# Altium schematic symbol library Connectors.SchLib: 32 symbols
Pins are listed as number, name and electrical type; pins without a type are passive.

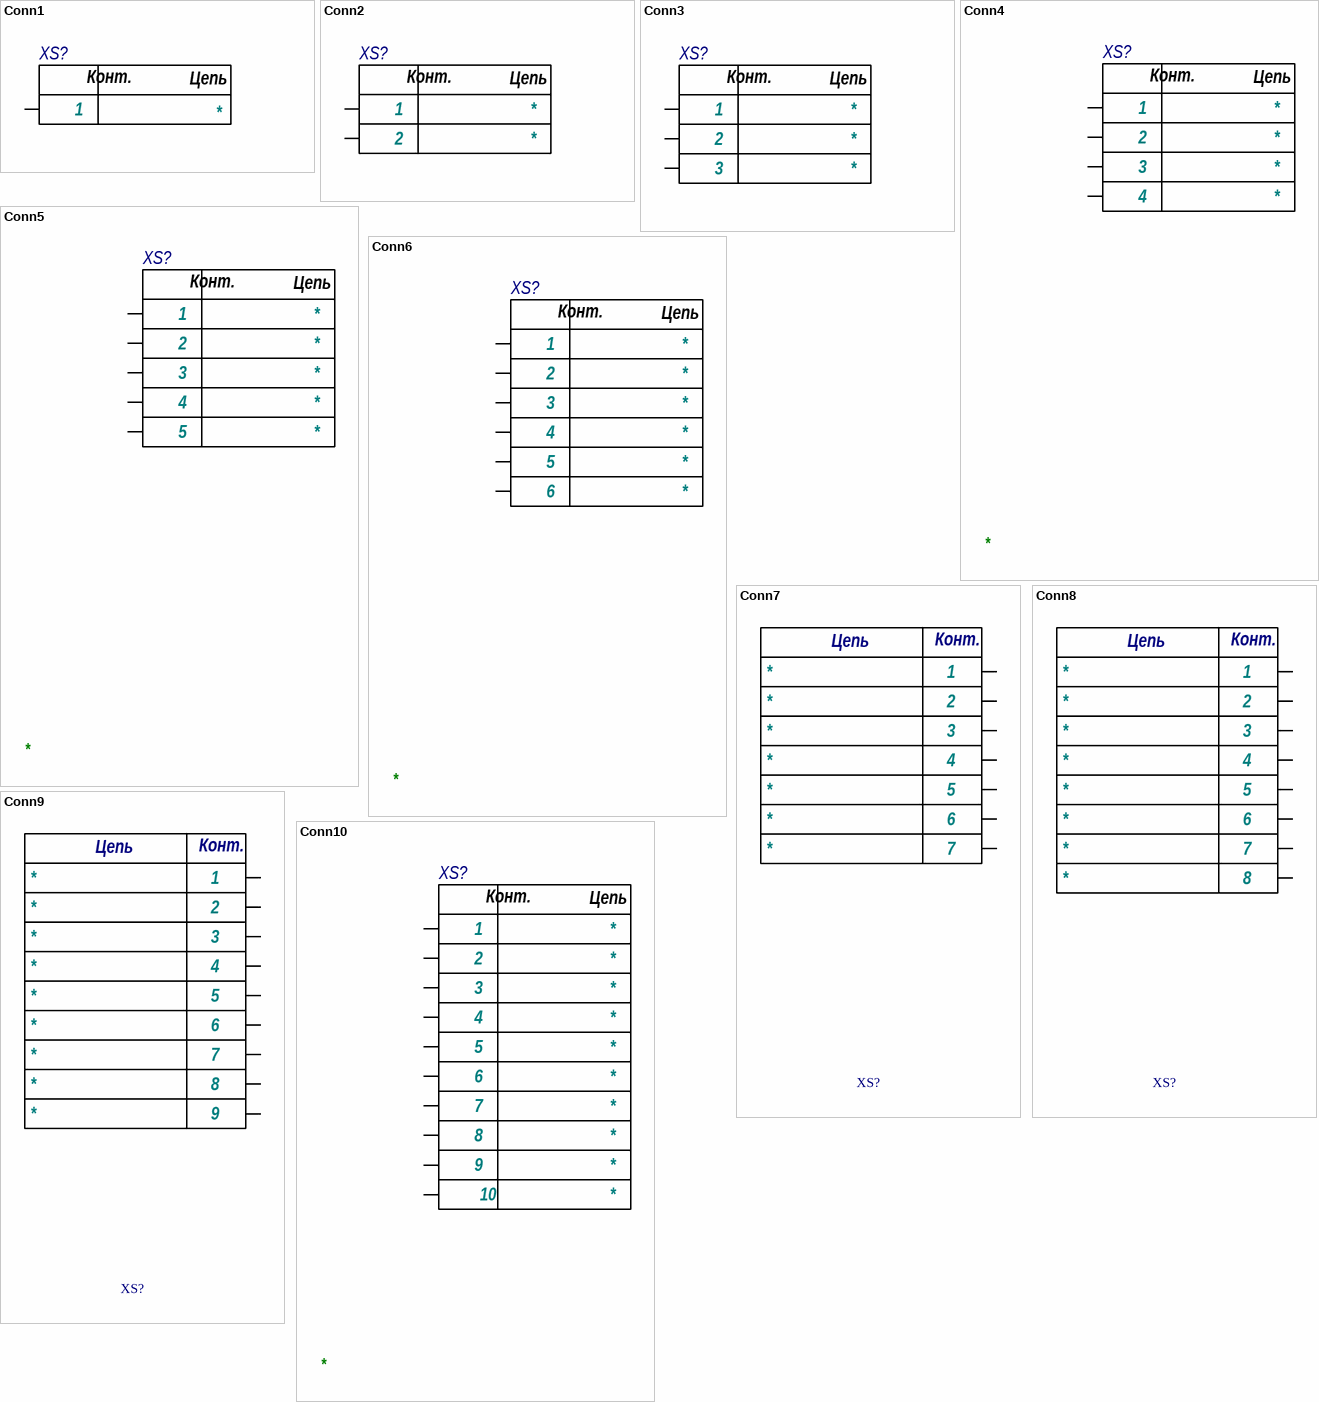
[diagram p0: symbols Conn1 to Conn10]

## Conn1
designator XS?
Разъемный; ValueManufacturer: *; STR1: *; ValueType: *; ValueManufacturerPartNumber: *
pins: 1
1 alternate drawing of the same symbol
text: Конт.; Цепь

## Conn2
designator XS?
Разъемный; ValueManufacturer: *; ValueType: *; STR1: *; STR2: *; ValueManufacturerPartNumber: *
pins: 1, 2
text: Конт.; Цепь

## Conn3
designator XS?
Разъемный; ValueManufacturer: *; ValueType: *; STR1: *; STR2: *; STR3: *; ValueManufacturerPartNumber: *
pins: 1, 2, 3
text: Конт.; Цепь

## Conn4
designator XS?
Разъемный; ValueManufacturer: *; ValueType: *; STR1: *; STR2: *; STR3: *; STR4: *; ValueManufacturerPartNumber: *
pins: 1, 2, 3, 4
text: Конт.; Цепь

## Conn5
designator XS?
Разъемный; ValueManufacturer: *; ValueType: *; STR1: *; STR2: *; STR3: *; STR4: *; STR5: *; ValueManufacturerPartNumber: *
pins: 1, 2, 3, 4, 5
text: Конт.; Цепь

## Conn6
designator XS?
Разъемный; ValueManufacturer: *; ValueType: *; STR1: *; STR2: *; STR3: *; STR4: *; STR5: *; STR6: *; ValueManufacturerPartNumber: *
pins: 1, 2, 3, 4, 5, 6
text: Конт.; Цепь

## Conn7
designator XS?
Разъемный; ValueManufacturer: *; ValueManufacturerPartNumber: *; ValueType: *; STR1: *; STR2: *; STR3: *; STR4: *; STR5: *; STR6: *; STR7: *
pins: 1, 2, 3, 4, 5, 6, 7
text: Цепь; Конт.

## Conn8
designator XS?
Разъемный; ValueManufacturer: *; ValueManufacturerPartNumber: *; ValueType: *; STR1: *; STR2: *; STR3: *; STR4: *; STR5: *; STR6: *; STR7: *; STR8: *
pins: 1, 2, 3, 4, 5, 6, 7, 8
text: Цепь; Конт.

## Conn9
designator XS?
Разъемный; ValueManufacturer: *; ValueManufacturerPartNumber: *; ValueType: *; STR1: *; STR2: *; STR3: *; STR4: *; STR5: *; STR6: *; STR7: *; STR8: *; STR9: *
pins: 1, 2, 3, 4, 5, 6, 7, 8, 9
text: Цепь; Конт.

## Conn10
designator XS?
Разъемный; ValueManufacturer: *; ValueType: *; STR1: *; STR2: *; STR3: *; STR4: *; STR5: *; STR6: *; STR7: *; STR8: *; STR9: *; STR10: *; ValueManufacturerPartNumber: *
pins: 1, 2, 3, 4, 5, 6, 7, 8, 9, 10
text: Конт.; Цепь

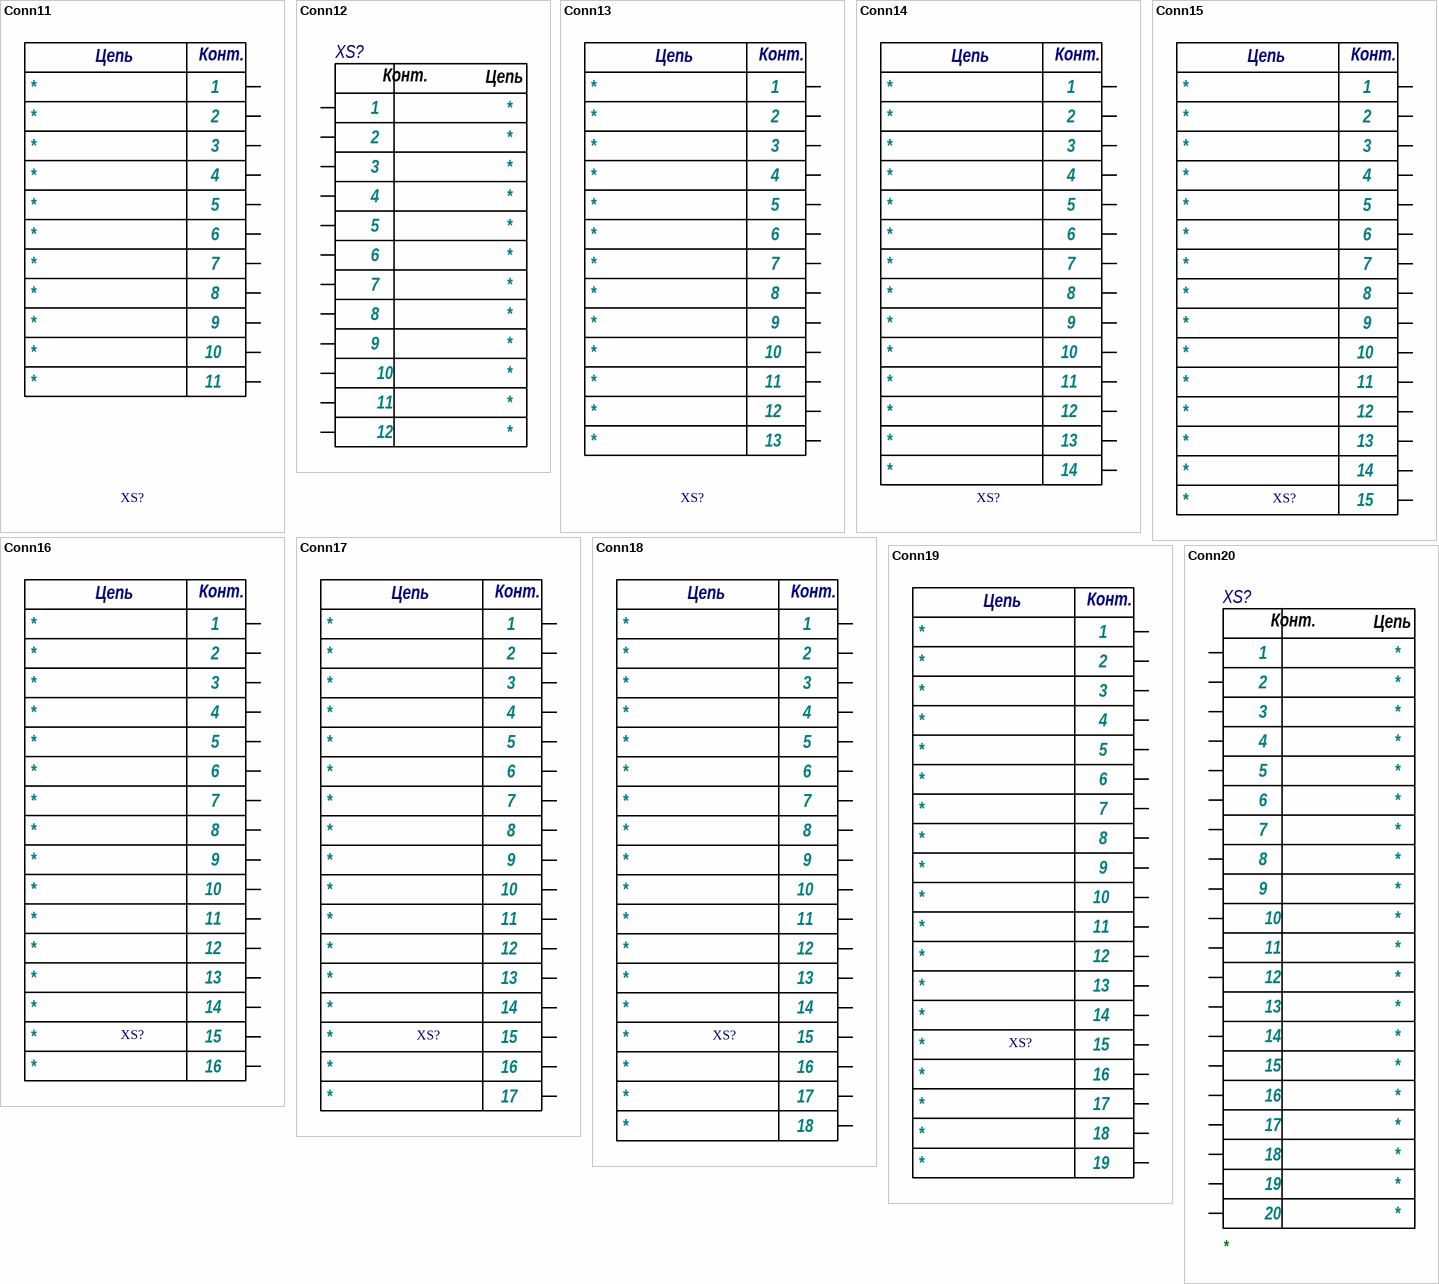
[diagram p1: symbols Conn11 to Conn20]

## Conn11
designator XS?
Разъемный; ValueManufacturer: *; ValueManufacturerPartNumber: *; ValueType: *; STR1: *; STR2: *; STR3: *; STR4: *; STR5: *; STR6: *; STR7: *; STR8: *; STR9: *; STR10: *; STR11: *
pins: 1, 2, 3, 4, 5, 6, 7, 8, 9, 10, 11
text: Цепь; Конт.

## Conn12
designator XS?
Разъемный; ValueManufacturer: *; ValueManufacturerPartNumber: *; ValueType: *; STR1: *; STR2: *; STR3: *; STR4: *; STR5: *; STR6: *; STR7: *; STR8: *; STR9: *; STR10: *; STR11: *; STR12: *
pins: 1, 2, 3, 4, 5, 6, 7, 8, 9, 10, 11, 12
text: Конт.; Цепь

## Conn13
designator XS?
Разъемный; ValueManufacturer: *; ValueManufacturerPartNumber: *; ValueType: *; STR1: *; STR2: *; STR3: *; STR4: *; STR5: *; STR6: *; STR7: *; STR8: *; STR9: *; STR10: *; STR11: *; STR12: *; STR13: *
pins: 1, 2, 3, 4, 5, 6, 7, 8, 9, 10, 11, 12, 13
text: Цепь; Конт.

## Conn14
designator XS?
Разъемный; ValueManufacturer: *; ValueManufacturerPartNumber: *; ValueType: *; STR1: *; STR2: *; STR3: *; STR4: *; STR5: *; STR6: *; STR7: *; STR8: *; STR9: *; STR10: *; STR11: *; STR12: *; STR13: *; STR14: *
pins: 1, 2, 3, 4, 5, 6, 7, 8, 9, 10, 11, 12, 13, 14
text: Цепь; Конт.

## Conn15
designator XS?
Разъемный; ValueManufacturer: *; ValueManufacturerPartNumber: *; ValueType: *; STR1: *; STR2: *; STR3: *; STR4: *; STR5: *; STR6: *; STR7: *; STR8: *; STR9: *; STR10: *; STR11: *; STR12: *; STR13: *; STR14: *; STR15: *
pins: 1, 2, 3, 4, 5, 6, 7, 8, 9, 10, 11, 12, 13, 14, 15
text: Цепь; Конт.

## Conn16
designator XS?
Разъемный; ValueManufacturer: *; ValueManufacturerPartNumber: *; ValueType: *; STR1: *; STR2: *; STR3: *; STR4: *; STR5: *; STR6: *; STR7: *; STR8: *; STR9: *; STR10: *; STR11: *; STR12: *; STR13: *; STR14: *; STR15: *; STR16: *
pins: 1, 2, 3, 4, 5, 6, 7, 8, 9, 10, 11, 12, 13, 14, 15, 16
text: Цепь; Конт.

## Conn17
designator XS?
Разъемный; ValueManufacturer: *; ValueManufacturerPartNumber: *; ValueType: *; STR1: *; STR2: *; STR3: *; STR4: *; STR5: *; STR6: *; STR7: *; STR8: *; STR9: *; STR10: *; STR11: *; STR12: *; STR13: *; STR14: *; STR15: *; STR16: *; STR17: *
pins: 1, 2, 3, 4, 5, 6, 7, 8, 9, 10, 11, 12, 13, 14, 15, 16, 17
text: Цепь; Конт.

## Conn18
designator XS?
Разъемный; ValueManufacturer: *; ValueManufacturerPartNumber: *; ValueType: *; STR1: *; STR2: *; STR3: *; STR4: *; STR5: *; STR6: *; STR7: *; STR8: *; STR9: *; STR10: *; STR11: *; STR12: *; STR13: *; STR14: *; STR15: *; STR16: *; STR17: *; STR18: *
pins: 1, 2, 3, 4, 5, 6, 7, 8, 9, 10, 11, 12, 13, 14, 15, 16, 17, 18
text: Цепь; Конт.

## Conn19
designator XS?
Разъемный; ValueManufacturer: *; ValueManufacturerPartNumber: *; ValueType: *; STR1: *; STR2: *; STR3: *; STR4: *; STR5: *; STR6: *; STR7: *; STR8: *; STR9: *; STR10: *; STR11: *; STR12: *; STR13: *; STR14: *; STR15: *; STR16: *; STR17: *; STR18: *; STR19: *
pins: 1, 2, 3, 4, 5, 6, 7, 8, 9, 10, 11, 12, 13, 14, 15, 16, 17, 18, 19
text: Цепь; Конт.

## Conn20
designator XS?
Разъемный; ValueManufacturer: *; ValueType: *; STR1: *; STR2: *; STR3: *; STR4: *; STR5: *; STR6: *; STR7: *; STR8: *; STR9: *; STR10: *; STR11: *; STR12: *; STR13: *; STR14: *; STR15: *; STR16: *; STR17: *; STR18: *; STR19: *; STR20: *; ValueManufacturerPartNumber: *
pins: 1, 2, 3, 4, 5, 6, 7, 8, 9, 10, 11, 12, 13, 14, 15, 16, 17, 18, 19, 20
text: Конт.; Цепь

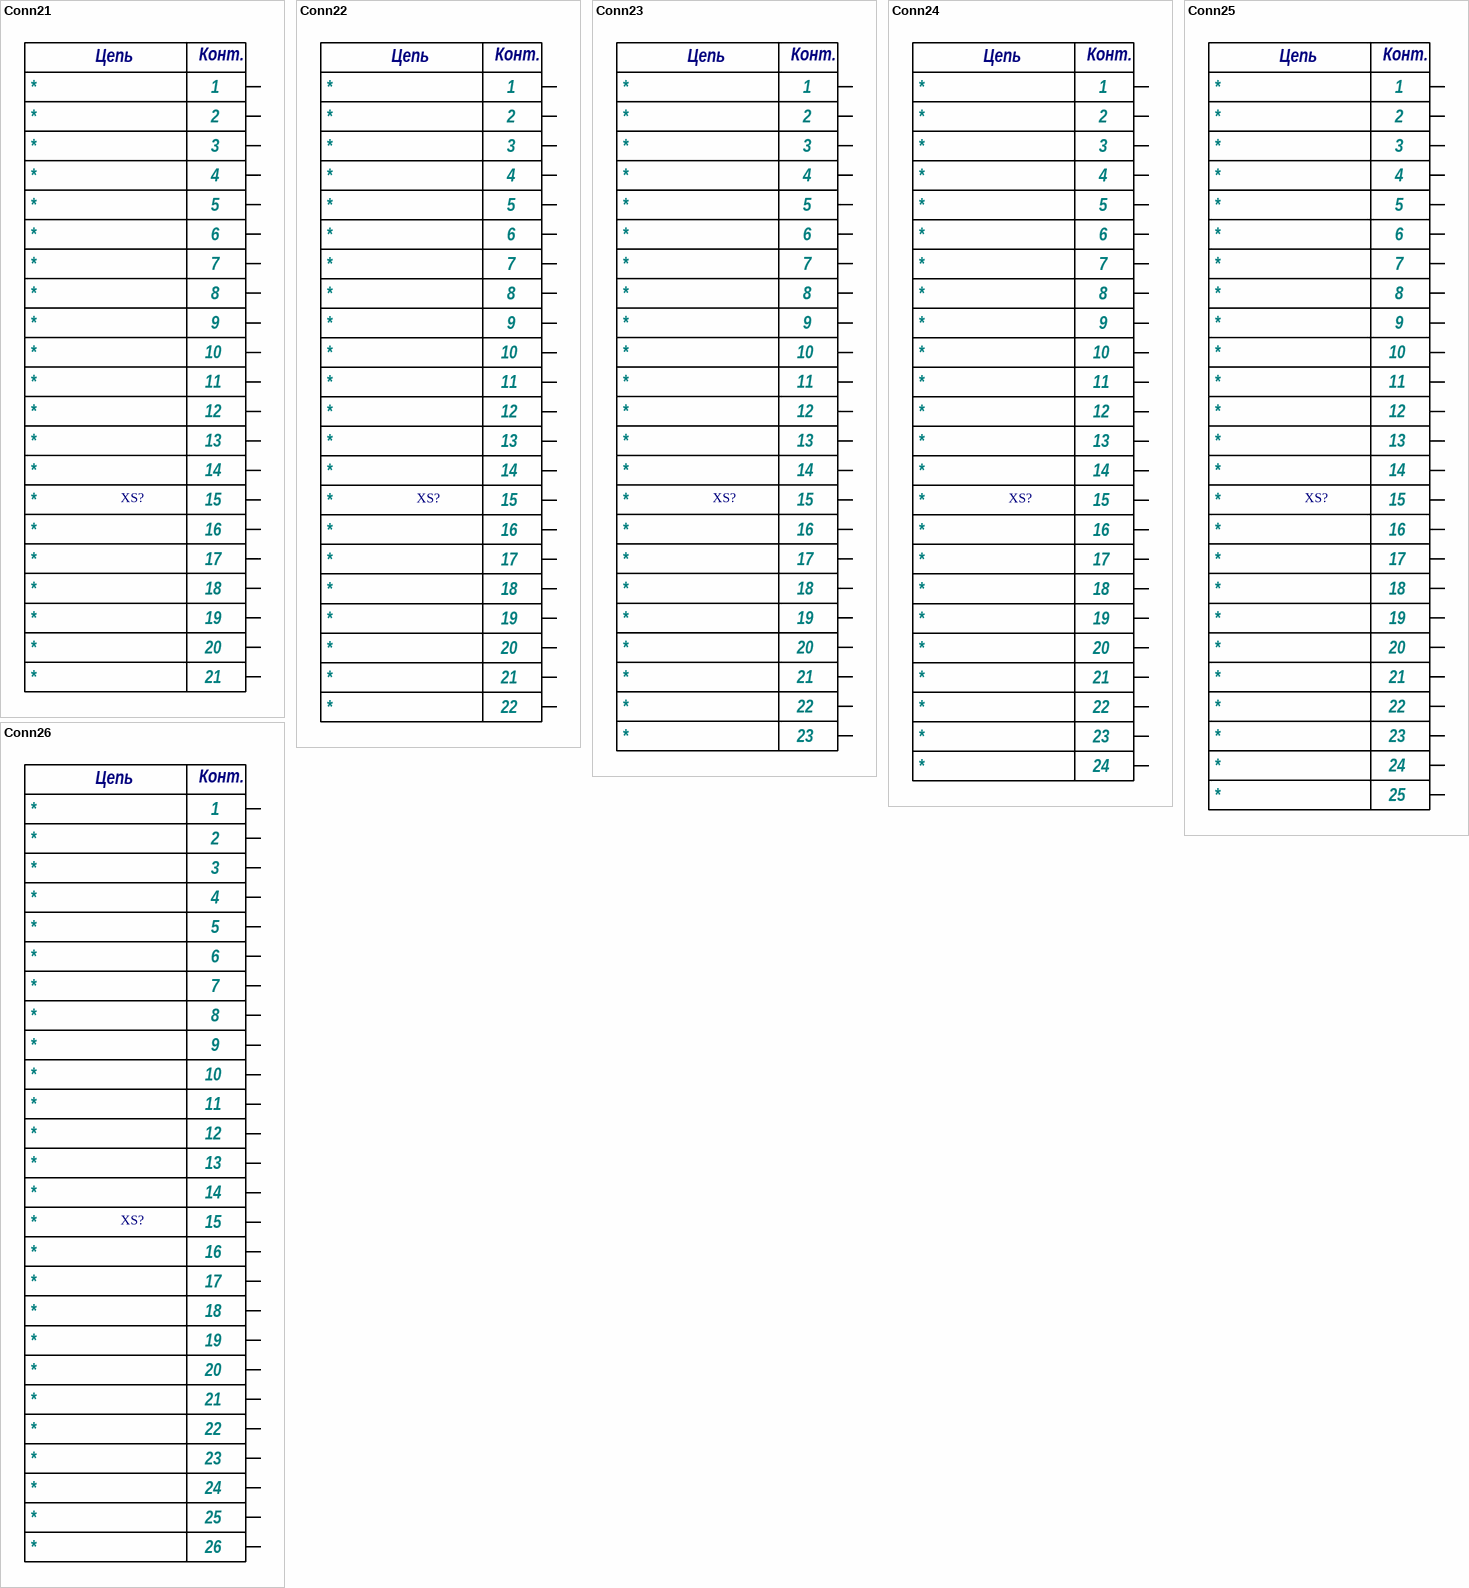
[diagram p2: symbols Conn21 to Conn26]

## Conn21
designator XS?
Разъемный; ValueManufacturer: *; ValueManufacturerPartNumber: *; ValueType: *; STR1: *; STR2: *; STR3: *; STR4: *; STR5: *; STR6: *; STR7: *; STR8: *; STR9: *; STR10: *; STR11: *; STR12: *; STR13: *; STR14: *; STR15: *; STR16: *; STR17: *; STR18: *; STR19: *; STR20: *; STR21: *
pins: 1, 2, 3, 4, 5, 6, 7, 8, 9, 10, 11, 12, 13, 14, 15, 16, 17, 18, 19, 20, 21
text: Цепь; Конт.

## Conn22
designator XS?
Разъемный; ValueManufacturer: *; ValueManufacturerPartNumber: *; ValueType: *; STR1: *; STR2: *; STR3: *; STR4: *; STR5: *; STR6: *; STR7: *; STR8: *; STR9: *; STR10: *; STR11: *; STR12: *; STR13: *; STR14: *; STR15: *; STR16: *; STR17: *; STR18: *; STR19: *; STR20: *; STR21: *; STR22: *
pins: 1, 2, 3, 4, 5, 6, 7, 8, 9, 10, 11, 12, 13, 14, 15, 16, 17, 18, 19, 20, 21, 22
text: Цепь; Конт.

## Conn23
designator XS?
Разъемный; ValueManufacturer: *; ValueManufacturerPartNumber: *; ValueType: *; STR1: *; STR2: *; STR3: *; STR4: *; STR5: *; STR6: *; STR7: *; STR8: *; STR9: *; STR10: *; STR11: *; STR12: *; STR13: *; STR14: *; STR15: *; STR16: *; STR17: *; STR18: *; STR19: *; STR20: *; STR21: *; STR22: *; STR23: *
pins: 1, 2, 3, 4, 5, 6, 7, 8, 9, 10, 11, 12, 13, 14, 15, 16, 17, 18, 19, 20, 21, 22, 23
text: Цепь; Конт.

## Conn24
designator XS?
Разъемный; ValueManufacturer: *; ValueManufacturerPartNumber: *; ValueType: *; STR1: *; STR2: *; STR3: *; STR4: *; STR5: *; STR6: *; STR7: *; STR8: *; STR9: *; STR10: *; STR11: *; STR12: *; STR13: *; STR14: *; STR15: *; STR16: *; STR17: *; STR18: *; STR19: *; STR20: *; STR21: *; STR22: *; STR23: *; STR24: *
pins: 1, 2, 3, 4, 5, 6, 7, 8, 9, 10, 11, 12, 13, 14, 15, 16, 17, 18, 19, 20, 21, 22, 23, 24
text: Цепь; Конт.

## Conn25
designator XS?
Разъемный; ValueManufacturer: *; ValueManufacturerPartNumber: *; ValueType: *; STR1: *; STR2: *; STR3: *; STR4: *; STR5: *; STR6: *; STR7: *; STR8: *; STR9: *; STR10: *; STR11: *; STR12: *; STR13: *; STR14: *; STR15: *; STR16: *; STR17: *; STR18: *; STR19: *; STR20: *; STR21: *; STR22: *; STR23: *; STR24: *; STR25: *
pins: 1, 2, 3, 4, 5, 6, 7, 8, 9, 10, 11, 12, 13, 14, 15, 16, 17, 18, 19, 20, 21, 22, 23, 24, 25
text: Цепь; Конт.

## Conn26
designator XS?
Разъемный; ValueManufacturer: *; ValueManufacturerPartNumber: *; ValueType: *; STR1: *; STR2: *; STR3: *; STR4: *; STR5: *; STR6: *; STR7: *; STR8: *; STR9: *; STR10: *; STR11: *; STR12: *; STR13: *; STR14: *; STR15: *; STR16: *; STR17: *; STR18: *; STR19: *; STR20: *; STR21: *; STR22: *; STR23: *; STR24: *; STR25: *; STR26: *
pins: 1, 2, 3, 4, 5, 6, 7, 8, 9, 10, 11, 12, 13, 14, 15, 16, 17, 18, 19, 20, 21, 22, 23, 24, 25, 26
text: Цепь; Конт.

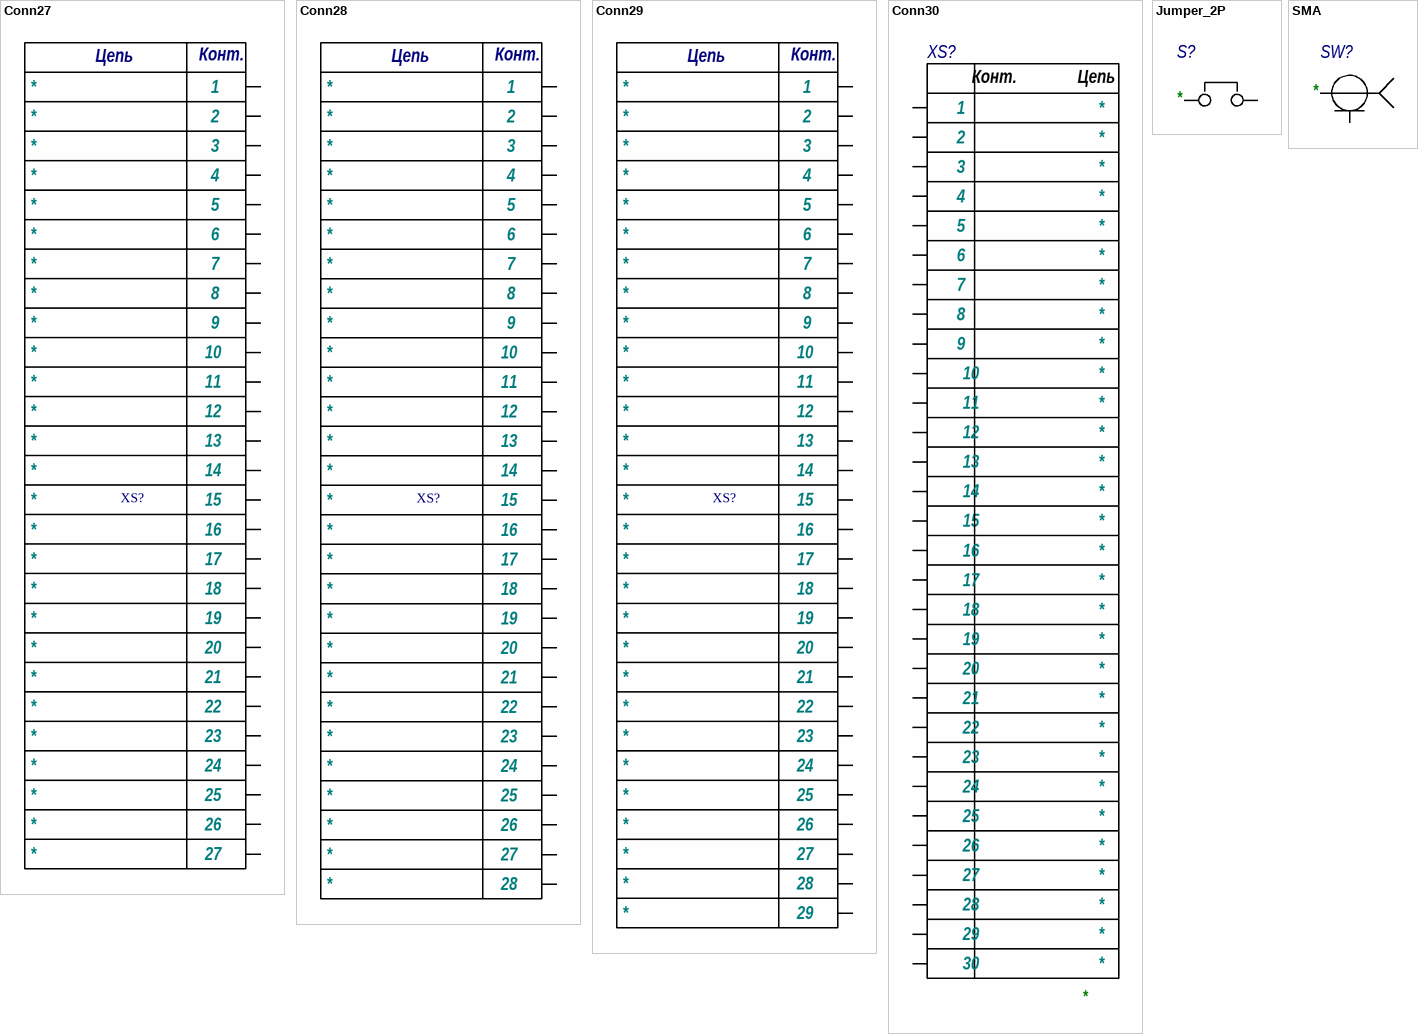
[diagram p3: symbols Conn27 to SMA]

## Conn27
designator XS?
Разъемный; ValueManufacturer: *; ValueManufacturerPartNumber: *; ValueType: *; STR1: *; STR2: *; STR3: *; STR4: *; STR5: *; STR6: *; STR7: *; STR8: *; STR9: *; STR10: *; STR11: *; STR12: *; STR13: *; STR14: *; STR15: *; STR16: *; STR17: *; STR18: *; STR19: *; STR20: *; STR21: *; STR22: *; STR23: *; STR24: *; STR25: *; STR26: *; STR27: *
pins: 1, 2, 3, 4, 5, 6, 7, 8, 9, 10, 11, 12, 13, 14, 15, 16, 17, 18, 19, 20, 21, 22, 23, 24, 25, 26, 27
text: Цепь; Конт.

## Conn28
designator XS?  (value not drawn)
Разъемный; ValueManufacturer: *; ValueManufacturerPartNumber: *; ValueType: *; STR1: *; STR2: *; STR3: *; STR4: *; STR5: *; STR6: *; STR7: *; STR8: *; STR9: *; STR10: *; STR11: *; STR12: *; STR13: *; STR14: *; STR15: *; STR16: *; STR17: *; STR18: *; STR19: *; STR20: *; STR21: *; STR22: *; STR23: *; STR24: *; STR25: *; STR26: *; STR27: *; STR28: *
pins: 1, 2, 3, 4, 5, 6, 7, 8, 9, 10, 11, 12, 13, 14, 15, 16, 17, 18, 19, 20, 21, 22, 23, 24, 25, 26, 27, 28
text: Цепь; Конт.

## Conn29
designator XS?  (value not drawn)
Разъемный; ValueManufacturer: *; ValueManufacturerPartNumber: *; ValueType: *; STR1: *; STR2: *; STR3: *; STR4: *; STR5: *; STR6: *; STR7: *; STR8: *; STR9: *; STR10: *; STR11: *; STR12: *; STR13: *; STR14: *; STR15: *; STR16: *; STR17: *; STR18: *; STR19: *; STR20: *; STR21: *; STR22: *; STR23: *; STR24: *; STR25: *; STR26: *; STR27: *; STR28: *; STR29: *
pins: 1, 2, 3, 4, 5, 6, 7, 8, 9, 10, 11, 12, 13, 14, 15, 16, 17, 18, 19, 20, 21, 22, 23, 24, 25, 26, 27, 28, 29
text: Цепь; Конт.

## Conn30
designator XS?  (value not drawn)
Разъемный; ValueManufacturer: *; ValueType: *; STR1: *; STR2: *; STR3: *; STR4: *; STR5: *; STR6: *; STR7: *; STR8: *; STR9: *; STR10: *; STR11: *; STR12: *; STR13: *; STR14: *; STR15: *; STR16: *; STR17: *; STR18: *; STR19: *; STR20: *; STR21: *; STR22: *; STR23: *; STR24: *; STR25: *; STR26: *; STR27: *; STR28: *; STR29: *; STR30: *; ValueManufacturerPartNumber: *
pins: 1, 2, 3, 4, 5, 6, 7, 8, 9, 10, 11, 12, 13, 14, 15, 16, 17, 18, 19, 20, 21, 22, 23, 24, 25, 26, 27, 28, 29, 30
text: Конт.; Цепь

## Jumper_2P
designator S?
ValueManufacturer: *; ValueType: *; ValueManufacturerPartNumber: *
pins: 1, 2

## SMA
designator SW?
ValueManufacturer: *; ValueType: *; ValueManufacturerPartNumber: *
pins: A, G